# Altium footprint library RES-AXIAL-PITCH11.PcbLib: 5 footprints
Each footprint in its own frame and in the unit in brackets; x right, y up, seen from the top. Pads: shape width x height; smd on the part's side, far side on the other; paste and mask are expansions set on the pad; w line width, h text height; cw(c..) or ccw(c..) is an arc to the next point about the centre after c.
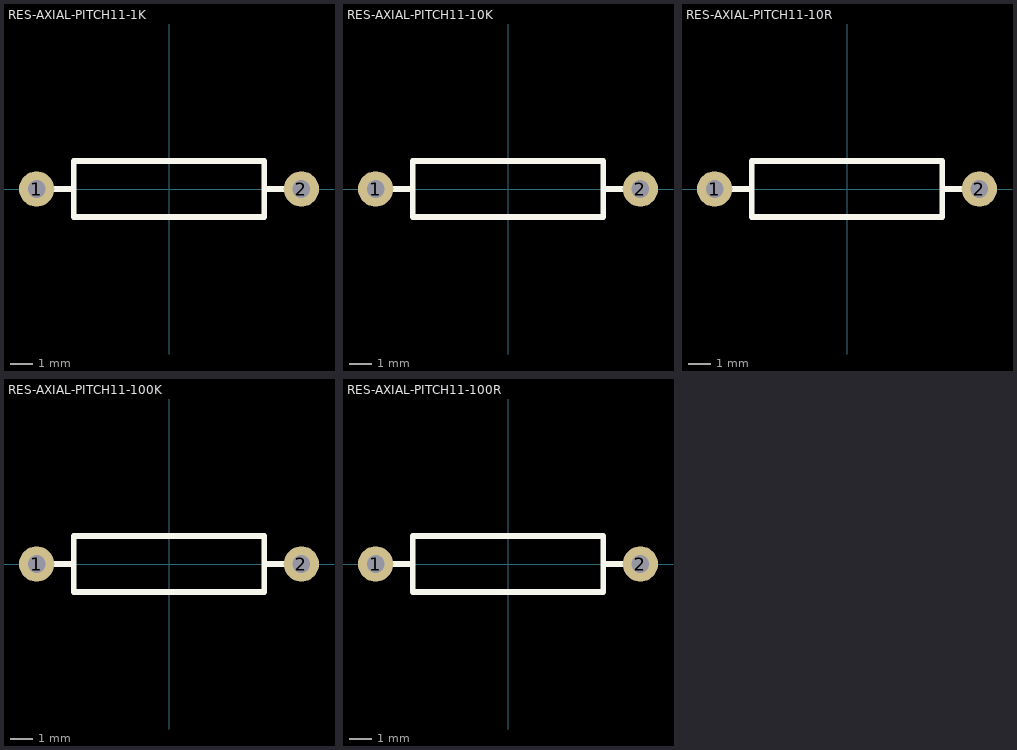
[diagram p0: the footprints below, top view; thin cyan lines are the x and y axes]

## RES-AXIAL-PITCH11-1K [mm] "RES-AXIAL-PITCH11-1K"
pads (2):
  round 1.6 hole 0.8: 1(-6,0) 2(6,0)
Top Overlay:
  lines w0.254: -6,0 -4.445,0 ; 4.445,0 6,0 ; -4.318,-1.27 4.318,-1.27 4.318,1.27 -4.318,1.27 -4.318,-1.27
3D body "AXIAL_RESISTOR-PITCH11-1K.stp": height 3.4, standoff -2.4, extent -6.2,-1.4 6.2,1.4

## RES-AXIAL-PITCH11-10K [mm] "RES-AXIAL-PITCH11-10K"
pads (2):
  round 1.6 hole 0.8: 1(-6,0) 2(6,0)
Top Overlay:
  lines w0.254: -6,0 -4.445,0 ; 4.445,0 6,0 ; -4.318,-1.27 4.318,-1.27 4.318,1.27 -4.318,1.27 -4.318,-1.27
3D body "AXIAL_RESISTOR-PITCH11-10K.stp": height 3.4, standoff -2.4, extent -6.2,-1.4 6.2,1.4

## RES-AXIAL-PITCH11-10R [mm] "RES-AXIAL-PITCH11-10R"
pads (2):
  round 1.6 hole 0.8: 1(-6,0) 2(6,0)
Top Overlay:
  lines w0.254: -6,0 -4.445,0 ; 4.445,0 6,0 ; -4.318,-1.27 -4.318,1.27 4.318,1.27 4.318,-1.27 -4.318,-1.27
3D body "AXIAL_RESISTOR-PITCH11-10E.stp": height 3.4, standoff -2.4, extent -6.2,-1.527 6.2,1.273

## RES-AXIAL-PITCH11-100K [mm] "RES-AXIAL-PITCH11-100K"
pads (2):
  round 1.6 hole 0.8: 1(-6,0) 2(6,0)
Top Overlay:
  lines w0.254: -6,0 -4.445,0 ; 4.445,0 6,0 ; -4.318,-1.27 4.318,-1.27 4.318,1.27 -4.318,1.27 -4.318,-1.27
3D body "AXIAL_RESISTOR-PITCH11-100K.stp": height 3.4, standoff -2.4, extent -6.2,-1.4 6.2,1.4

## RES-AXIAL-PITCH11-100R [mm] "RES-AXIAL-PITCH11-100R"
pads (2):
  round 1.6 hole 0.8: 1(-6,0) 2(6,0)
Top Overlay:
  lines w0.254: -6,0 -4.445,0 ; 4.445,0 6,0 ; -4.318,-1.27 -4.318,1.27 4.318,1.27 4.318,-1.27 -4.318,-1.27
3D body "AXIAL_RESISTOR-PITCH11-100E.stp": height 3.4, standoff -2.4, extent -6.2,-1.4 6.2,1.4